# Altium schematic symbol library kmilo17pet-NSC_LDO.SchLib: 2675 symbols (part 50 of 65)
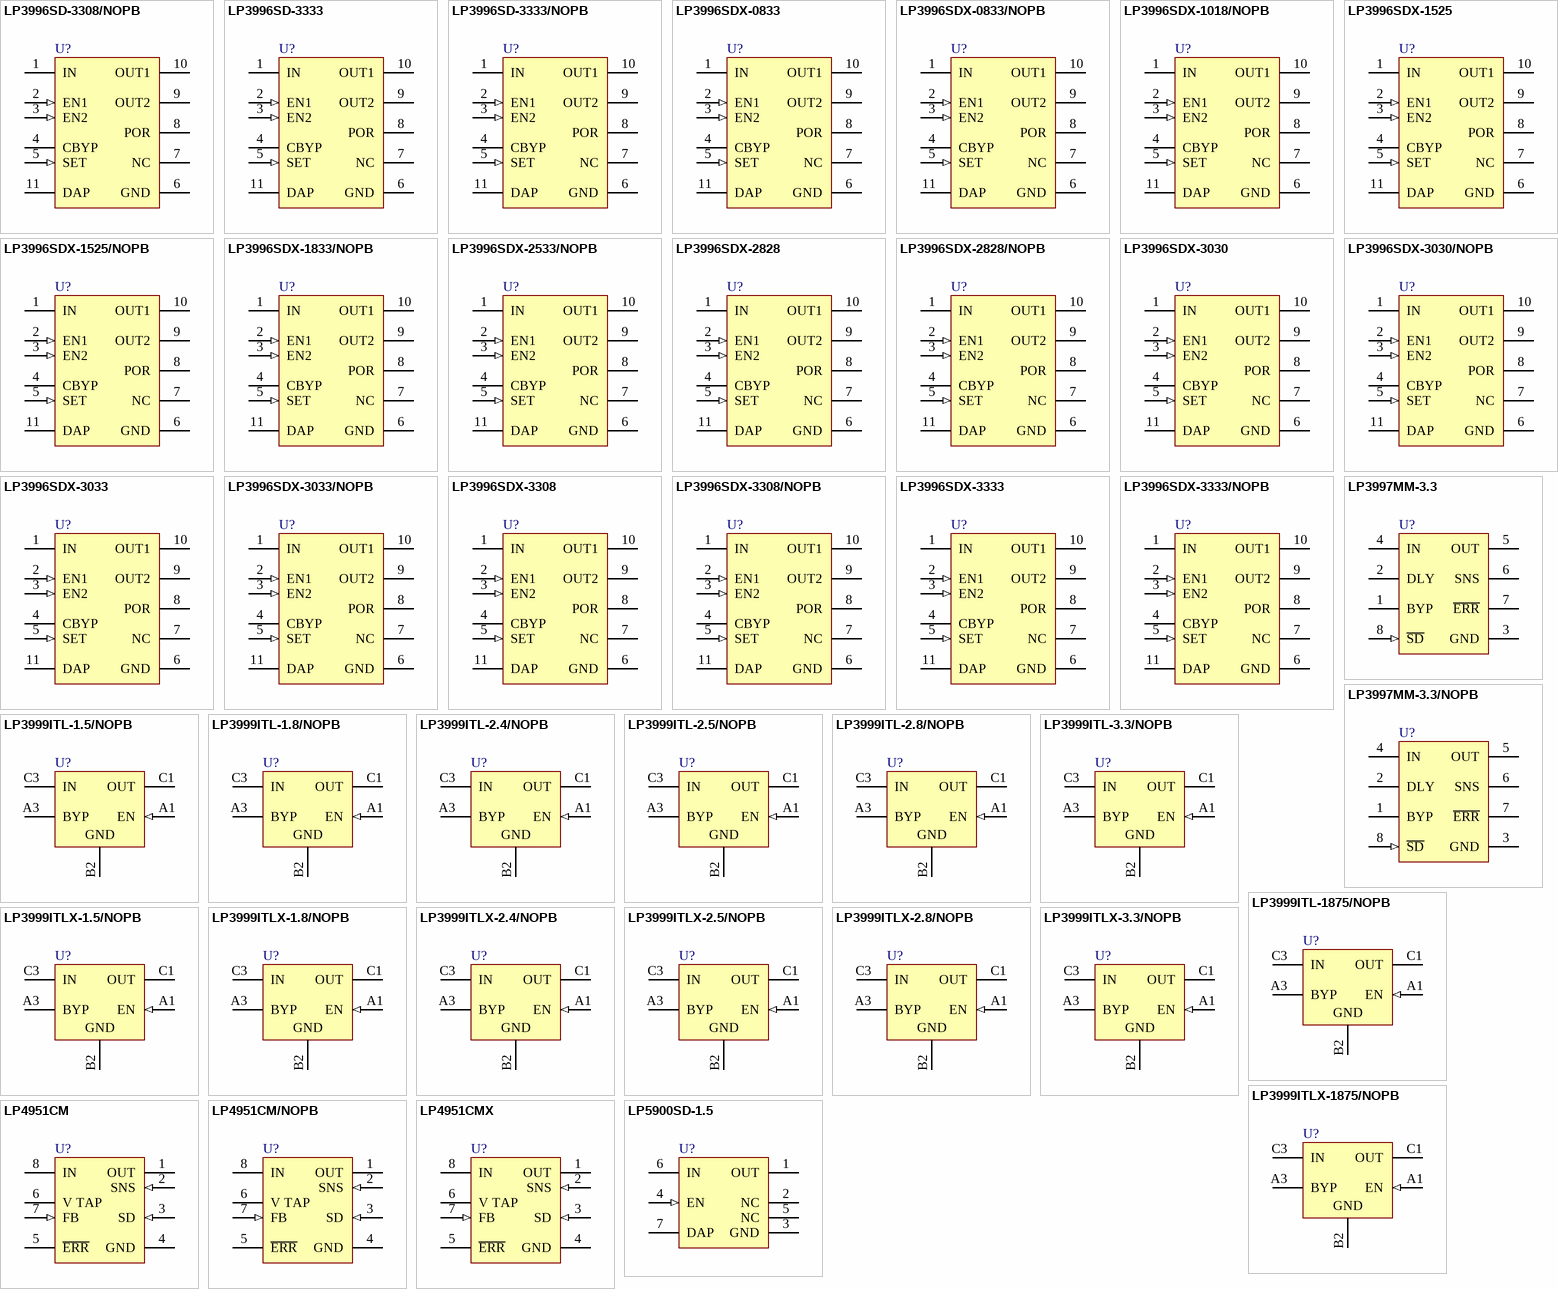
[diagram p116: symbols LP3996SD-3308/NOPB to LP5900SD-1.5]

## LP3996SDX-1018/NOPB
designator U?
Dual Linear Regulator with 300mA and 150mA Outputs and Power-On-Reset, 10-pin LLP, Pb-Free; PartNumber: LP3996SDX-1018/NOPB; Manufacturer: National Semiconductor; PackageTopMarking: ZXYTT*L227B; PowerWise: N; CompType: LDO IC; High-Reliability: Y; DatasheetVersion: Jan-2008; PackageVersion: revA, Oct-2003; PackageReference: SDA10A; PackageDescription: LLP, Plastic, Dual, 3 x 3 x 0.8mm Body, 10 Lead, 0.5mm Pitch, No Pullback; RoHS: Y; PinCount: 10; ComponentLink1Description: Manufacturer URL; ComponentLink1URL: http://www.national.com/; ComponentLink2Description: LP3996 Datasheet; ComponentLink2URL: http://www.national.com/ds/LP/LP3996.pdf; ComponentLink3Description: LP3996 Web Page; ComponentLink3URL: http://www.national.com/pf/LP/LP3996.html; ComponentLink4Description: SDA10A Package Page; ComponentLink4URL: http://www.national.com/packaging/folders/sda10a.html
footprint SDA10A (SON, 10-Leads, Body 3x3 mm, Pitch 0.5mm, NSC Recommended)
pins: 1 IN (power), 2 EN1 (in), 3 EN2 (in), 4 CBYP, 5 SET (in), 6 GND (power), 7 NC, 8 POR (oc), 9 OUT2 (power), 10 OUT1 (power), 11 DAP (power)

## LP3996SDX-1525
designator U?
Dual Linear Regulator with 300mA and 150mA Outputs and Power-On-Reset, 10-pin LLP; PartNumber: LP3996SDX-1525; Manufacturer: National Semiconductor; PackageTopMarking: ZXYTT*L168B; PowerWise: N; CompType: LDO IC; High-Reliability: Y; DatasheetVersion: Jan-2008; PackageVersion: revA, Oct-2003; PackageReference: SDA10A; PackageDescription: LLP, Plastic, Dual, 3 x 3 x 0.8mm Body, 10 Lead, 0.5mm Pitch, No Pullback; RoHS: N; PinCount: 10; ComponentLink1Description: Manufacturer URL; ComponentLink1URL: http://www.national.com/; ComponentLink2Description: LP3996 Datasheet; ComponentLink2URL: http://www.national.com/ds/LP/LP3996.pdf; ComponentLink3Description: LP3996 Web Page; ComponentLink3URL: http://www.national.com/pf/LP/LP3996.html; ComponentLink4Description: SDA10A Package Page; ComponentLink4URL: http://www.national.com/packaging/folders/sda10a.html
footprint SDA10A (SON, 10-Leads, Body 3x3 mm, Pitch 0.5mm, NSC Recommended)
pins: 1 IN (power), 2 EN1 (in), 3 EN2 (in), 4 CBYP, 5 SET (in), 6 GND (power), 7 NC, 8 POR (oc), 9 OUT2 (power), 10 OUT1 (power), 11 DAP (power)

## LP3996SDX-1525/NOPB
designator U?
Dual Linear Regulator with 300mA and 150mA Outputs and Power-On-Reset, 10-pin LLP, Pb-Free; PartNumber: LP3996SDX-1525/NOPB; Manufacturer: National Semiconductor; PackageTopMarking: ZXYTT*L168B; PowerWise: N; CompType: LDO IC; High-Reliability: Y; DatasheetVersion: Jan-2008; PackageVersion: revA, Oct-2003; PackageReference: SDA10A; PackageDescription: LLP, Plastic, Dual, 3 x 3 x 0.8mm Body, 10 Lead, 0.5mm Pitch, No Pullback; RoHS: Y; PinCount: 10; ComponentLink1Description: Manufacturer URL; ComponentLink1URL: http://www.national.com/; ComponentLink2Description: LP3996 Datasheet; ComponentLink2URL: http://www.national.com/ds/LP/LP3996.pdf; ComponentLink3Description: LP3996 Web Page; ComponentLink3URL: http://www.national.com/pf/LP/LP3996.html; ComponentLink4Description: SDA10A Package Page; ComponentLink4URL: http://www.national.com/packaging/folders/sda10a.html
footprint SDA10A (SON, 10-Leads, Body 3x3 mm, Pitch 0.5mm, NSC Recommended)
pins: 1 IN (power), 2 EN1 (in), 3 EN2 (in), 4 CBYP, 5 SET (in), 6 GND (power), 7 NC, 8 POR (oc), 9 OUT2 (power), 10 OUT1 (power), 11 DAP (power)

## LP3996SDX-1833/NOPB
designator U?
Dual Linear Regulator with 300mA and 150mA Outputs and Power-On-Reset, 10-pin LLP, Pb-Free; PartNumber: LP3996SDX-1833/NOPB; Manufacturer: National Semiconductor; PackageTopMarking: ZXYTT*L228B; PowerWise: N; CompType: LDO IC; High-Reliability: Y; DatasheetVersion: Jan-2008; PackageVersion: revA, Oct-2003; PackageReference: SDA10A; PackageDescription: LLP, Plastic, Dual, 3 x 3 x 0.8mm Body, 10 Lead, 0.5mm Pitch, No Pullback; RoHS: Y; PinCount: 10; ComponentLink1Description: Manufacturer URL; ComponentLink1URL: http://www.national.com/; ComponentLink2Description: LP3996 Datasheet; ComponentLink2URL: http://www.national.com/ds/LP/LP3996.pdf; ComponentLink3Description: LP3996 Web Page; ComponentLink3URL: http://www.national.com/pf/LP/LP3996.html; ComponentLink4Description: SDA10A Package Page; ComponentLink4URL: http://www.national.com/packaging/folders/sda10a.html
footprint SDA10A (SON, 10-Leads, Body 3x3 mm, Pitch 0.5mm, NSC Recommended)
pins: 1 IN (power), 2 EN1 (in), 3 EN2 (in), 4 CBYP, 5 SET (in), 6 GND (power), 7 NC, 8 POR (oc), 9 OUT2 (power), 10 OUT1 (power), 11 DAP (power)

## LP3996SDX-2533/NOPB
designator U?
Dual Linear Regulator with 300mA and 150mA Outputs and Power-On-Reset, 10-pin LLP, Pb-Free; PartNumber: LP3996SDX-2533/NOPB; Manufacturer: National Semiconductor; PackageTopMarking: ZXYTT*L229B; PowerWise: N; CompType: LDO IC; High-Reliability: Y; DatasheetVersion: Jan-2008; PackageVersion: revA, Oct-2003; PackageReference: SDA10A; PackageDescription: LLP, Plastic, Dual, 3 x 3 x 0.8mm Body, 10 Lead, 0.5mm Pitch, No Pullback; RoHS: Y; PinCount: 10; ComponentLink1Description: Manufacturer URL; ComponentLink1URL: http://www.national.com/; ComponentLink2Description: LP3996 Datasheet; ComponentLink2URL: http://www.national.com/ds/LP/LP3996.pdf; ComponentLink3Description: LP3996 Web Page; ComponentLink3URL: http://www.national.com/pf/LP/LP3996.html; ComponentLink4Description: SDA10A Package Page; ComponentLink4URL: http://www.national.com/packaging/folders/sda10a.html
footprint SDA10A (SON, 10-Leads, Body 3x3 mm, Pitch 0.5mm, NSC Recommended)
pins: 1 IN (power), 2 EN1 (in), 3 EN2 (in), 4 CBYP, 5 SET (in), 6 GND (power), 7 NC, 8 POR (oc), 9 OUT2 (power), 10 OUT1 (power), 11 DAP (power)

## LP3996SDX-2828
designator U?
Dual Linear Regulator with 300mA and 150mA Outputs and Power-On-Reset, 10-pin LLP; PartNumber: LP3996SDX-2828; Manufacturer: National Semiconductor; PackageTopMarking: ZXYTT*L171B; PowerWise: N; CompType: LDO IC; High-Reliability: Y; DatasheetVersion: Jan-2008; PackageVersion: revA, Oct-2003; PackageReference: SDA10A; PackageDescription: LLP, Plastic, Dual, 3 x 3 x 0.8mm Body, 10 Lead, 0.5mm Pitch, No Pullback; RoHS: N; PinCount: 10; ComponentLink1Description: Manufacturer URL; ComponentLink1URL: http://www.national.com/; ComponentLink2Description: LP3996 Datasheet; ComponentLink2URL: http://www.national.com/ds/LP/LP3996.pdf; ComponentLink3Description: LP3996 Web Page; ComponentLink3URL: http://www.national.com/pf/LP/LP3996.html; ComponentLink4Description: SDA10A Package Page; ComponentLink4URL: http://www.national.com/packaging/folders/sda10a.html
footprint SDA10A (SON, 10-Leads, Body 3x3 mm, Pitch 0.5mm, NSC Recommended)
pins: 1 IN (power), 2 EN1 (in), 3 EN2 (in), 4 CBYP, 5 SET (in), 6 GND (power), 7 NC, 8 POR (oc), 9 OUT2 (power), 10 OUT1 (power), 11 DAP (power)

## LP3996SDX-2828/NOPB
designator U?
Dual Linear Regulator with 300mA and 150mA Outputs and Power-On-Reset, 10-pin LLP, Pb-Free; PartNumber: LP3996SDX-2828/NOPB; Manufacturer: National Semiconductor; PackageTopMarking: ZXYTT*L171B; PowerWise: N; CompType: LDO IC; High-Reliability: Y; DatasheetVersion: Jan-2008; PackageVersion: revA, Oct-2003; PackageReference: SDA10A; PackageDescription: LLP, Plastic, Dual, 3 x 3 x 0.8mm Body, 10 Lead, 0.5mm Pitch, No Pullback; RoHS: Y; PinCount: 10; ComponentLink1Description: Manufacturer URL; ComponentLink1URL: http://www.national.com/; ComponentLink2Description: LP3996 Datasheet; ComponentLink2URL: http://www.national.com/ds/LP/LP3996.pdf; ComponentLink3Description: LP3996 Web Page; ComponentLink3URL: http://www.national.com/pf/LP/LP3996.html; ComponentLink4Description: SDA10A Package Page; ComponentLink4URL: http://www.national.com/packaging/folders/sda10a.html
footprint SDA10A (SON, 10-Leads, Body 3x3 mm, Pitch 0.5mm, NSC Recommended)
pins: 1 IN (power), 2 EN1 (in), 3 EN2 (in), 4 CBYP, 5 SET (in), 6 GND (power), 7 NC, 8 POR (oc), 9 OUT2 (power), 10 OUT1 (power), 11 DAP (power)

## LP3996SDX-3030
designator U?
Dual Linear Regulator with 300mA and 150mA Outputs and Power-On-Reset, 10-pin LLP; PartNumber: LP3996SDX-3030; Manufacturer: National Semiconductor; PackageTopMarking: ZXYTT*L172B; PowerWise: N; CompType: LDO IC; High-Reliability: Y; DatasheetVersion: Jan-2008; PackageVersion: revA, Oct-2003; PackageReference: SDA10A; PackageDescription: LLP, Plastic, Dual, 3 x 3 x 0.8mm Body, 10 Lead, 0.5mm Pitch, No Pullback; RoHS: N; PinCount: 10; ComponentLink1Description: Manufacturer URL; ComponentLink1URL: http://www.national.com/; ComponentLink2Description: LP3996 Datasheet; ComponentLink2URL: http://www.national.com/ds/LP/LP3996.pdf; ComponentLink3Description: LP3996 Web Page; ComponentLink3URL: http://www.national.com/pf/LP/LP3996.html; ComponentLink4Description: SDA10A Package Page; ComponentLink4URL: http://www.national.com/packaging/folders/sda10a.html
footprint SDA10A (SON, 10-Leads, Body 3x3 mm, Pitch 0.5mm, NSC Recommended)
pins: 1 IN (power), 2 EN1 (in), 3 EN2 (in), 4 CBYP, 5 SET (in), 6 GND (power), 7 NC, 8 POR (oc), 9 OUT2 (power), 10 OUT1 (power), 11 DAP (power)

## LP3996SDX-3030/NOPB
designator U?
Dual Linear Regulator with 300mA and 150mA Outputs and Power-On-Reset, 10-pin LLP, Pb-Free; PartNumber: LP3996SDX-3030/NOPB; Manufacturer: National Semiconductor; PackageTopMarking: ZXYTT*L172B; PowerWise: N; CompType: LDO IC; High-Reliability: Y; DatasheetVersion: Jan-2008; PackageVersion: revA, Oct-2003; PackageReference: SDA10A; PackageDescription: LLP, Plastic, Dual, 3 x 3 x 0.8mm Body, 10 Lead, 0.5mm Pitch, No Pullback; RoHS: Y; PinCount: 10; ComponentLink1Description: Manufacturer URL; ComponentLink1URL: http://www.national.com/; ComponentLink2Description: LP3996 Datasheet; ComponentLink2URL: http://www.national.com/ds/LP/LP3996.pdf; ComponentLink3Description: LP3996 Web Page; ComponentLink3URL: http://www.national.com/pf/LP/LP3996.html; ComponentLink4Description: SDA10A Package Page; ComponentLink4URL: http://www.national.com/packaging/folders/sda10a.html
footprint SDA10A (SON, 10-Leads, Body 3x3 mm, Pitch 0.5mm, NSC Recommended)
pins: 1 IN (power), 2 EN1 (in), 3 EN2 (in), 4 CBYP, 5 SET (in), 6 GND (power), 7 NC, 8 POR (oc), 9 OUT2 (power), 10 OUT1 (power), 11 DAP (power)

## LP3996SDX-3033
designator U?
Dual Linear Regulator with 300mA and 150mA Outputs and Power-On-Reset, 10-pin LLP; PartNumber: LP3996SDX-3033; Manufacturer: National Semiconductor; PackageTopMarking: ZXYTT*L170B; PowerWise: N; CompType: LDO IC; High-Reliability: Y; DatasheetVersion: Jan-2008; PackageVersion: revA, Oct-2003; PackageReference: SDA10A; PackageDescription: LLP, Plastic, Dual, 3 x 3 x 0.8mm Body, 10 Lead, 0.5mm Pitch, No Pullback; RoHS: N; PinCount: 10; ComponentLink1Description: Manufacturer URL; ComponentLink1URL: http://www.national.com/; ComponentLink2Description: LP3996 Datasheet; ComponentLink2URL: http://www.national.com/ds/LP/LP3996.pdf; ComponentLink3Description: LP3996 Web Page; ComponentLink3URL: http://www.national.com/pf/LP/LP3996.html; ComponentLink4Description: SDA10A Package Page; ComponentLink4URL: http://www.national.com/packaging/folders/sda10a.html
footprint SDA10A (SON, 10-Leads, Body 3x3 mm, Pitch 0.5mm, NSC Recommended)
pins: 1 IN (power), 2 EN1 (in), 3 EN2 (in), 4 CBYP, 5 SET (in), 6 GND (power), 7 NC, 8 POR (oc), 9 OUT2 (power), 10 OUT1 (power), 11 DAP (power)

## LP3996SDX-3033/NOPB
designator U?
Dual Linear Regulator with 300mA and 150mA Outputs and Power-On-Reset, 10-pin LLP, Pb-Free; PartNumber: LP3996SDX-3033/NOPB; Manufacturer: National Semiconductor; PackageTopMarking: ZXYTT*L170B; PowerWise: N; CompType: LDO IC; High-Reliability: Y; DatasheetVersion: Jan-2008; PackageVersion: revA, Oct-2003; PackageReference: SDA10A; PackageDescription: LLP, Plastic, Dual, 3 x 3 x 0.8mm Body, 10 Lead, 0.5mm Pitch, No Pullback; RoHS: Y; PinCount: 10; ComponentLink1Description: Manufacturer URL; ComponentLink1URL: http://www.national.com/; ComponentLink2Description: LP3996 Datasheet; ComponentLink2URL: http://www.national.com/ds/LP/LP3996.pdf; ComponentLink3Description: LP3996 Web Page; ComponentLink3URL: http://www.national.com/pf/LP/LP3996.html; ComponentLink4Description: SDA10A Package Page; ComponentLink4URL: http://www.national.com/packaging/folders/sda10a.html
footprint SDA10A (SON, 10-Leads, Body 3x3 mm, Pitch 0.5mm, NSC Recommended)
pins: 1 IN (power), 2 EN1 (in), 3 EN2 (in), 4 CBYP, 5 SET (in), 6 GND (power), 7 NC, 8 POR (oc), 9 OUT2 (power), 10 OUT1 (power), 11 DAP (power)

## LP3996SDX-3308
designator U?
Dual Linear Regulator with 300mA and 150mA Outputs and Power-On-Reset, 10-pin LLP; PartNumber: LP3996SDX-3308; Manufacturer: National Semiconductor; PackageTopMarking: ZXYTT*L188B; PowerWise: N; CompType: LDO IC; High-Reliability: Y; DatasheetVersion: Jan-2008; PackageVersion: revA, Oct-2003; PackageReference: SDA10A; PackageDescription: LLP, Plastic, Dual, 3 x 3 x 0.8mm Body, 10 Lead, 0.5mm Pitch, No Pullback; RoHS: N; PinCount: 10; ComponentLink1Description: Manufacturer URL; ComponentLink1URL: http://www.national.com/; ComponentLink2Description: LP3996 Datasheet; ComponentLink2URL: http://www.national.com/ds/LP/LP3996.pdf; ComponentLink3Description: LP3996 Web Page; ComponentLink3URL: http://www.national.com/pf/LP/LP3996.html; ComponentLink4Description: SDA10A Package Page; ComponentLink4URL: http://www.national.com/packaging/folders/sda10a.html
footprint SDA10A (SON, 10-Leads, Body 3x3 mm, Pitch 0.5mm, NSC Recommended)
pins: 1 IN (power), 2 EN1 (in), 3 EN2 (in), 4 CBYP, 5 SET (in), 6 GND (power), 7 NC, 8 POR (oc), 9 OUT2 (power), 10 OUT1 (power), 11 DAP (power)

## LP3996SDX-3308/NOPB
designator U?
Dual Linear Regulator with 300mA and 150mA Outputs and Power-On-Reset, 10-pin LLP, Pb-Free; PartNumber: LP3996SDX-3308/NOPB; Manufacturer: National Semiconductor; PackageTopMarking: ZXYTT*L188B; PowerWise: N; CompType: LDO IC; High-Reliability: Y; DatasheetVersion: Jan-2008; PackageVersion: revA, Oct-2003; PackageReference: SDA10A; PackageDescription: LLP, Plastic, Dual, 3 x 3 x 0.8mm Body, 10 Lead, 0.5mm Pitch, No Pullback; RoHS: Y; PinCount: 10; ComponentLink1Description: Manufacturer URL; ComponentLink1URL: http://www.national.com/; ComponentLink2Description: LP3996 Datasheet; ComponentLink2URL: http://www.national.com/ds/LP/LP3996.pdf; ComponentLink3Description: LP3996 Web Page; ComponentLink3URL: http://www.national.com/pf/LP/LP3996.html; ComponentLink4Description: SDA10A Package Page; ComponentLink4URL: http://www.national.com/packaging/folders/sda10a.html
footprint SDA10A (SON, 10-Leads, Body 3x3 mm, Pitch 0.5mm, NSC Recommended)
pins: 1 IN (power), 2 EN1 (in), 3 EN2 (in), 4 CBYP, 5 SET (in), 6 GND (power), 7 NC, 8 POR (oc), 9 OUT2 (power), 10 OUT1 (power), 11 DAP (power)

## LP3996SDX-3333
designator U?
Dual Linear Regulator with 300mA and 150mA Outputs and Power-On-Reset, 10-pin LLP; PartNumber: LP3996SDX-3333; Manufacturer: National Semiconductor; PackageTopMarking: ZXYTT*L173B; PowerWise: N; CompType: LDO IC; High-Reliability: Y; DatasheetVersion: Jan-2008; PackageVersion: revA, Oct-2003; PackageReference: SDA10A; PackageDescription: LLP, Plastic, Dual, 3 x 3 x 0.8mm Body, 10 Lead, 0.5mm Pitch, No Pullback; RoHS: N; PinCount: 10; ComponentLink1Description: Manufacturer URL; ComponentLink1URL: http://www.national.com/; ComponentLink2Description: LP3996 Datasheet; ComponentLink2URL: http://www.national.com/ds/LP/LP3996.pdf; ComponentLink3Description: LP3996 Web Page; ComponentLink3URL: http://www.national.com/pf/LP/LP3996.html; ComponentLink4Description: SDA10A Package Page; ComponentLink4URL: http://www.national.com/packaging/folders/sda10a.html
footprint SDA10A (SON, 10-Leads, Body 3x3 mm, Pitch 0.5mm, NSC Recommended)
pins: 1 IN (power), 2 EN1 (in), 3 EN2 (in), 4 CBYP, 5 SET (in), 6 GND (power), 7 NC, 8 POR (oc), 9 OUT2 (power), 10 OUT1 (power), 11 DAP (power)

## LP3996SDX-3333/NOPB
designator U?
Dual Linear Regulator with 300mA and 150mA Outputs and Power-On-Reset, 10-pin LLP, Pb-Free; PartNumber: LP3996SDX-3333/NOPB; Manufacturer: National Semiconductor; PackageTopMarking: ZXYTT*L173B; PowerWise: N; CompType: LDO IC; High-Reliability: Y; DatasheetVersion: Jan-2008; PackageVersion: revA, Oct-2003; PackageReference: SDA10A; PackageDescription: LLP, Plastic, Dual, 3 x 3 x 0.8mm Body, 10 Lead, 0.5mm Pitch, No Pullback; RoHS: Y; PinCount: 10; ComponentLink1Description: Manufacturer URL; ComponentLink1URL: http://www.national.com/; ComponentLink2Description: LP3996 Datasheet; ComponentLink2URL: http://www.national.com/ds/LP/LP3996.pdf; ComponentLink3Description: LP3996 Web Page; ComponentLink3URL: http://www.national.com/pf/LP/LP3996.html; ComponentLink4Description: SDA10A Package Page; ComponentLink4URL: http://www.national.com/packaging/folders/sda10a.html
footprint SDA10A (SON, 10-Leads, Body 3x3 mm, Pitch 0.5mm, NSC Recommended)
pins: 1 IN (power), 2 EN1 (in), 3 EN2 (in), 4 CBYP, 5 SET (in), 6 GND (power), 7 NC, 8 POR (oc), 9 OUT2 (power), 10 OUT1 (power), 11 DAP (power)

## LP3997MM-3.3
designator U?
Micropower 250mA CMOS LDO Regulator with Error Flag / Power-On-Reset, 8-pin Mini SOIC; PartNumber: LP3997MM-3.3; Manufacturer: National Semiconductor; PackageTopMarking: ZXTT*SAKB; PowerWise: N; CompType: LDO IC; High-Reliability: Y; DatasheetVersion: May-2005; PackageVersion: revF, Apr-2008; PackageReference: MUA08A; PackageDescription: MINI SOIC, .118 x .118 x .034in, 8 Lead, .0256in Pitch; RoHS: N; PinCount: 8; Code_JEDEC: MO-187-AA; ComponentLink1Description: Manufacturer URL; ComponentLink1URL: http://www.national.com/; ComponentLink2Description: LP3997 Datasheet; ComponentLink2URL: http://www.national.com/ds/LP/LP3997.pdf; ComponentLink3Description: LP3997 Web Page; ComponentLink3URL: http://www.national.com/pf/LP/LP3997.html; ComponentLink4Description: MUA08A Package Page; ComponentLink4URL: http://www.national.com/packaging/folders/mua08a.html
footprint MUA08A_N (TSOP, 8-Leads, Body 3x3mm, Pitch 0.65mm, IPC Medium Density)
footprint MUA08A_L (TSOP, 8-Leads, Body 3x3mm, Pitch 0.65mm, IPC High Density)
footprint MUA08A_M (TSOP, 8-Leads, Body 3x3mm, Pitch 0.65mm, IPC Low Density)
pins: 1 BYP, 2 DLY, 3 GND (power), 4 IN (power), 5 OUT (power), 6 SNS, 7 ~{ERR} (oc), 8 ~{SD} (in)

## LP3997MM-3.3/NOPB
designator U?
Micropower 250mA CMOS LDO Regulator with Error Flag / Power-On-Reset, 8-pin Mini SOIC, Pb-Free; PartNumber: LP3997MM-3.3/NOPB; Manufacturer: National Semiconductor; PackageTopMarking: ZXTT*SAKB; PowerWise: N; CompType: LDO IC; High-Reliability: Y; DatasheetVersion: May-2005; PackageVersion: revF, Apr-2008; PackageReference: MUA08A; PackageDescription: MINI SOIC, .118 x .118 x .034in, 8 Lead, .0256in Pitch; RoHS: Y; PinCount: 8; Code_JEDEC: MO-187-AA; ComponentLink1Description: Manufacturer URL; ComponentLink1URL: http://www.national.com/; ComponentLink2Description: LP3997 Datasheet; ComponentLink2URL: http://www.national.com/ds/LP/LP3997.pdf; ComponentLink3Description: LP3997 Web Page; ComponentLink3URL: http://www.national.com/pf/LP/LP3997.html; ComponentLink4Description: MUA08A Package Page; ComponentLink4URL: http://www.national.com/packaging/folders/mua08a.html
footprint MUA08A_N (TSOP, 8-Leads, Body 3x3mm, Pitch 0.65mm, IPC Medium Density)
footprint MUA08A_L (TSOP, 8-Leads, Body 3x3mm, Pitch 0.65mm, IPC High Density)
footprint MUA08A_M (TSOP, 8-Leads, Body 3x3mm, Pitch 0.65mm, IPC Low Density)
pins: 1 BYP, 2 DLY, 3 GND (power), 4 IN (power), 5 OUT (power), 6 SNS, 7 ~{ERR} (oc), 8 ~{SD} (in)

## LP3999ITL-1.5/NOPB
designator U?
Low Noise 150mA Voltage Regulator for RF/Analog Applications., 5-pin Micro SMD, Pb-Free; PartNumber: LP3999ITL-1.5/NOPB; Manufacturer: National Semiconductor; PackageTopMarking: XV*I 9; PowerWise: N; CompType: LDO IC; High-Reliability: Y; DatasheetVersion: Jul-2006; PackageVersion: revC, Feb-2005; PackageReference: TLA05ADA; PackageDescription: Thin Micro SMD, 5 Bump (Large), 0.5mm Pitch; RoHS: Y; PinCount: 5; ComponentLink1Description: Manufacturer URL; ComponentLink1URL: http://www.national.com/; ComponentLink2Description: LP3999 Datasheet; ComponentLink2URL: http://www.national.com/ds/LP/LP3999.pdf; ComponentLink3Description: LP3999 Web Page; ComponentLink3URL: http://www.national.com/pf/LP/LP3999.html; ComponentLink4Description: TLA05ADA Package Page; ComponentLink4URL: http://www.national.com/packaging/folders/tla05ada.html
footprint TLA05ADA (Micro SMD, 5-Leads, Body 1.45x1.01mm, Pitch 0.5mm, NSC Recommended)
pins: A1 EN (in), A3 BYP, B2 GND (power), C1 OUT (power), C3 IN (power)

## LP3999ITL-1.8/NOPB
designator U?
Low Noise 150mA Voltage Regulator for RF/Analog Applications., 5-pin Micro SMD, Pb-Free; PartNumber: LP3999ITL-1.8/NOPB; Manufacturer: National Semiconductor; PackageTopMarking: XV*I 9; PowerWise: N; CompType: LDO IC; High-Reliability: Y; DatasheetVersion: Jul-2006; PackageVersion: revC, Feb-2005; PackageReference: TLA05ADA; PackageDescription: Thin Micro SMD, 5 Bump (Large), 0.5mm Pitch; RoHS: Y; PinCount: 5; ComponentLink1Description: Manufacturer URL; ComponentLink1URL: http://www.national.com/; ComponentLink2Description: LP3999 Datasheet; ComponentLink2URL: http://www.national.com/ds/LP/LP3999.pdf; ComponentLink3Description: LP3999 Web Page; ComponentLink3URL: http://www.national.com/pf/LP/LP3999.html; ComponentLink4Description: TLA05ADA Package Page; ComponentLink4URL: http://www.national.com/packaging/folders/tla05ada.html
footprint TLA05ADA (Micro SMD, 5-Leads, Body 1.45x1.01mm, Pitch 0.5mm, NSC Recommended)
pins: A1 EN (in), A3 BYP, B2 GND (power), C1 OUT (power), C3 IN (power)

## LP3999ITL-2.4/NOPB
designator U?
Low Noise 150mA Voltage Regulator for RF/Analog Applications., 5-pin Micro SMD, Pb-Free; PartNumber: LP3999ITL-2.4/NOPB; Manufacturer: National Semiconductor; PackageTopMarking: XV*I 9; PowerWise: N; CompType: LDO IC; High-Reliability: Y; DatasheetVersion: Jul-2006; PackageVersion: revC, Feb-2005; PackageReference: TLA05ADA; PackageDescription: Thin Micro SMD, 5 Bump (Large), 0.5mm Pitch; RoHS: Y; PinCount: 5; ComponentLink1Description: Manufacturer URL; ComponentLink1URL: http://www.national.com/; ComponentLink2Description: LP3999 Datasheet; ComponentLink2URL: http://www.national.com/ds/LP/LP3999.pdf; ComponentLink3Description: LP3999 Web Page; ComponentLink3URL: http://www.national.com/pf/LP/LP3999.html; ComponentLink4Description: TLA05ADA Package Page; ComponentLink4URL: http://www.national.com/packaging/folders/tla05ada.html
footprint TLA05ADA (Micro SMD, 5-Leads, Body 1.45x1.01mm, Pitch 0.5mm, NSC Recommended)
pins: A1 EN (in), A3 BYP, B2 GND (power), C1 OUT (power), C3 IN (power)

## LP3999ITL-2.5/NOPB
designator U?
Low Noise 150mA Voltage Regulator for RF/Analog Applications., 5-pin Micro SMD, Pb-Free; PartNumber: LP3999ITL-2.5/NOPB; Manufacturer: National Semiconductor; PackageTopMarking: XV*I 9; PowerWise: N; CompType: LDO IC; High-Reliability: Y; DatasheetVersion: Jul-2006; PackageVersion: revC, Feb-2005; PackageReference: TLA05ADA; PackageDescription: Thin Micro SMD, 5 Bump (Large), 0.5mm Pitch; RoHS: Y; PinCount: 5; ComponentLink1Description: Manufacturer URL; ComponentLink1URL: http://www.national.com/; ComponentLink2Description: LP3999 Datasheet; ComponentLink2URL: http://www.national.com/ds/LP/LP3999.pdf; ComponentLink3Description: LP3999 Web Page; ComponentLink3URL: http://www.national.com/pf/LP/LP3999.html; ComponentLink4Description: TLA05ADA Package Page; ComponentLink4URL: http://www.national.com/packaging/folders/tla05ada.html
footprint TLA05ADA (Micro SMD, 5-Leads, Body 1.45x1.01mm, Pitch 0.5mm, NSC Recommended)
pins: A1 EN (in), A3 BYP, B2 GND (power), C1 OUT (power), C3 IN (power)

## LP3999ITL-2.8/NOPB
designator U?
Low Noise 150mA Voltage Regulator for RF/Analog Applications., 5-pin Micro SMD, Pb-Free; PartNumber: LP3999ITL-2.8/NOPB; Manufacturer: National Semiconductor; PackageTopMarking: XV*I 9; PowerWise: N; CompType: LDO IC; High-Reliability: Y; DatasheetVersion: Jul-2006; PackageVersion: revC, Feb-2005; PackageReference: TLA05ADA; PackageDescription: Thin Micro SMD, 5 Bump (Large), 0.5mm Pitch; RoHS: Y; PinCount: 5; ComponentLink1Description: Manufacturer URL; ComponentLink1URL: http://www.national.com/; ComponentLink2Description: LP3999 Datasheet; ComponentLink2URL: http://www.national.com/ds/LP/LP3999.pdf; ComponentLink3Description: LP3999 Web Page; ComponentLink3URL: http://www.national.com/pf/LP/LP3999.html; ComponentLink4Description: TLA05ADA Package Page; ComponentLink4URL: http://www.national.com/packaging/folders/tla05ada.html
footprint TLA05ADA (Micro SMD, 5-Leads, Body 1.45x1.01mm, Pitch 0.5mm, NSC Recommended)
pins: A1 EN (in), A3 BYP, B2 GND (power), C1 OUT (power), C3 IN (power)

## LP3999ITL-3.3/NOPB
designator U?
Low Noise 150mA Voltage Regulator for RF/Analog Applications., 5-pin Micro SMD, Pb-Free; PartNumber: LP3999ITL-3.3/NOPB; Manufacturer: National Semiconductor; PackageTopMarking: XV*I 9; PowerWise: N; CompType: LDO IC; High-Reliability: Y; DatasheetVersion: Jul-2006; PackageVersion: revC, Feb-2005; PackageReference: TLA05ADA; PackageDescription: Thin Micro SMD, 5 Bump (Large), 0.5mm Pitch; RoHS: Y; PinCount: 5; ComponentLink1Description: Manufacturer URL; ComponentLink1URL: http://www.national.com/; ComponentLink2Description: LP3999 Datasheet; ComponentLink2URL: http://www.national.com/ds/LP/LP3999.pdf; ComponentLink3Description: LP3999 Web Page; ComponentLink3URL: http://www.national.com/pf/LP/LP3999.html; ComponentLink4Description: TLA05ADA Package Page; ComponentLink4URL: http://www.national.com/packaging/folders/tla05ada.html
footprint TLA05ADA (Micro SMD, 5-Leads, Body 1.45x1.01mm, Pitch 0.5mm, NSC Recommended)
pins: A1 EN (in), A3 BYP, B2 GND (power), C1 OUT (power), C3 IN (power)

## LP3999ITL-1875/NOPB
designator U?
Low Noise 150mA Voltage Regulator for RF/Analog Applications., 5-pin Micro SMD, Pb-Free; PartNumber: LP3999ITL-1875/NOPB; Manufacturer: National Semiconductor; PackageTopMarking: XV*I 9; PowerWise: N; CompType: LDO IC; High-Reliability: Y; DatasheetVersion: Jul-2006; PackageVersion: revC, Feb-2005; PackageReference: TLA05ADA; PackageDescription: Thin Micro SMD, 5 Bump (Large), 0.5mm Pitch; RoHS: Y; PinCount: 5; ComponentLink1Description: Manufacturer URL; ComponentLink1URL: http://www.national.com/; ComponentLink2Description: LP3999 Datasheet; ComponentLink2URL: http://www.national.com/ds/LP/LP3999.pdf; ComponentLink3Description: LP3999 Web Page; ComponentLink3URL: http://www.national.com/pf/LP/LP3999.html; ComponentLink4Description: TLA05ADA Package Page; ComponentLink4URL: http://www.national.com/packaging/folders/tla05ada.html
footprint TLA05ADA (Micro SMD, 5-Leads, Body 1.45x1.01mm, Pitch 0.5mm, NSC Recommended)
pins: A1 EN (in), A3 BYP, B2 GND (power), C1 OUT (power), C3 IN (power)

## LP3999ITLX-1.5/NOPB
designator U?
Low Noise 150mA Voltage Regulator for RF/Analog Applications., 5-pin Micro SMD, Pb-Free; PartNumber: LP3999ITLX-1.5/NOPB; Manufacturer: National Semiconductor; PackageTopMarking: XV*I 9; PowerWise: N; CompType: LDO IC; High-Reliability: Y; DatasheetVersion: Jul-2006; PackageVersion: revC, Feb-2005; PackageReference: TLA05ADA; PackageDescription: Thin Micro SMD, 5 Bump (Large), 0.5mm Pitch; RoHS: Y; PinCount: 5; ComponentLink1Description: Manufacturer URL; ComponentLink1URL: http://www.national.com/; ComponentLink2Description: LP3999 Datasheet; ComponentLink2URL: http://www.national.com/ds/LP/LP3999.pdf; ComponentLink3Description: LP3999 Web Page; ComponentLink3URL: http://www.national.com/pf/LP/LP3999.html; ComponentLink4Description: TLA05ADA Package Page; ComponentLink4URL: http://www.national.com/packaging/folders/tla05ada.html
footprint TLA05ADA (Micro SMD, 5-Leads, Body 1.45x1.01mm, Pitch 0.5mm, NSC Recommended)
pins: A1 EN (in), A3 BYP, B2 GND (power), C1 OUT (power), C3 IN (power)

## LP3999ITLX-1.8/NOPB
designator U?
Low Noise 150mA Voltage Regulator for RF/Analog Applications., 5-pin Micro SMD, Pb-Free; PartNumber: LP3999ITLX-1.8/NOPB; Manufacturer: National Semiconductor; PackageTopMarking: XV*I 9; PowerWise: N; CompType: LDO IC; High-Reliability: Y; DatasheetVersion: Jul-2006; PackageVersion: revC, Feb-2005; PackageReference: TLA05ADA; PackageDescription: Thin Micro SMD, 5 Bump (Large), 0.5mm Pitch; RoHS: Y; PinCount: 5; ComponentLink1Description: Manufacturer URL; ComponentLink1URL: http://www.national.com/; ComponentLink2Description: LP3999 Datasheet; ComponentLink2URL: http://www.national.com/ds/LP/LP3999.pdf; ComponentLink3Description: LP3999 Web Page; ComponentLink3URL: http://www.national.com/pf/LP/LP3999.html; ComponentLink4Description: TLA05ADA Package Page; ComponentLink4URL: http://www.national.com/packaging/folders/tla05ada.html
footprint TLA05ADA (Micro SMD, 5-Leads, Body 1.45x1.01mm, Pitch 0.5mm, NSC Recommended)
pins: A1 EN (in), A3 BYP, B2 GND (power), C1 OUT (power), C3 IN (power)

## LP3999ITLX-2.4/NOPB
designator U?
Low Noise 150mA Voltage Regulator for RF/Analog Applications., 5-pin Micro SMD, Pb-Free; PartNumber: LP3999ITLX-2.4/NOPB; Manufacturer: National Semiconductor; PackageTopMarking: XV*I 9; PowerWise: N; CompType: LDO IC; High-Reliability: Y; DatasheetVersion: Jul-2006; PackageVersion: revC, Feb-2005; PackageReference: TLA05ADA; PackageDescription: Thin Micro SMD, 5 Bump (Large), 0.5mm Pitch; RoHS: Y; PinCount: 5; ComponentLink1Description: Manufacturer URL; ComponentLink1URL: http://www.national.com/; ComponentLink2Description: LP3999 Datasheet; ComponentLink2URL: http://www.national.com/ds/LP/LP3999.pdf; ComponentLink3Description: LP3999 Web Page; ComponentLink3URL: http://www.national.com/pf/LP/LP3999.html; ComponentLink4Description: TLA05ADA Package Page; ComponentLink4URL: http://www.national.com/packaging/folders/tla05ada.html
footprint TLA05ADA (Micro SMD, 5-Leads, Body 1.45x1.01mm, Pitch 0.5mm, NSC Recommended)
pins: A1 EN (in), A3 BYP, B2 GND (power), C1 OUT (power), C3 IN (power)

## LP3999ITLX-2.5/NOPB
designator U?
Low Noise 150mA Voltage Regulator for RF/Analog Applications., 5-pin Micro SMD, Pb-Free; PartNumber: LP3999ITLX-2.5/NOPB; Manufacturer: National Semiconductor; PackageTopMarking: XV*I 9; PowerWise: N; CompType: LDO IC; High-Reliability: Y; DatasheetVersion: Jul-2006; PackageVersion: revC, Feb-2005; PackageReference: TLA05ADA; PackageDescription: Thin Micro SMD, 5 Bump (Large), 0.5mm Pitch; RoHS: Y; PinCount: 5; ComponentLink1Description: Manufacturer URL; ComponentLink1URL: http://www.national.com/; ComponentLink2Description: LP3999 Datasheet; ComponentLink2URL: http://www.national.com/ds/LP/LP3999.pdf; ComponentLink3Description: LP3999 Web Page; ComponentLink3URL: http://www.national.com/pf/LP/LP3999.html; ComponentLink4Description: TLA05ADA Package Page; ComponentLink4URL: http://www.national.com/packaging/folders/tla05ada.html
footprint TLA05ADA (Micro SMD, 5-Leads, Body 1.45x1.01mm, Pitch 0.5mm, NSC Recommended)
pins: A1 EN (in), A3 BYP, B2 GND (power), C1 OUT (power), C3 IN (power)

## LP3999ITLX-2.8/NOPB
designator U?
Low Noise 150mA Voltage Regulator for RF/Analog Applications., 5-pin Micro SMD, Pb-Free; PartNumber: LP3999ITLX-2.8/NOPB; Manufacturer: National Semiconductor; PackageTopMarking: XV*I 9; PowerWise: N; CompType: LDO IC; High-Reliability: Y; DatasheetVersion: Jul-2006; PackageVersion: revC, Feb-2005; PackageReference: TLA05ADA; PackageDescription: Thin Micro SMD, 5 Bump (Large), 0.5mm Pitch; RoHS: Y; PinCount: 5; ComponentLink1Description: Manufacturer URL; ComponentLink1URL: http://www.national.com/; ComponentLink2Description: LP3999 Datasheet; ComponentLink2URL: http://www.national.com/ds/LP/LP3999.pdf; ComponentLink3Description: LP3999 Web Page; ComponentLink3URL: http://www.national.com/pf/LP/LP3999.html; ComponentLink4Description: TLA05ADA Package Page; ComponentLink4URL: http://www.national.com/packaging/folders/tla05ada.html
footprint TLA05ADA (Micro SMD, 5-Leads, Body 1.45x1.01mm, Pitch 0.5mm, NSC Recommended)
pins: A1 EN (in), A3 BYP, B2 GND (power), C1 OUT (power), C3 IN (power)

## LP3999ITLX-3.3/NOPB
designator U?
Low Noise 150mA Voltage Regulator for RF/Analog Applications., 5-pin Micro SMD, Pb-Free; PartNumber: LP3999ITLX-3.3/NOPB; Manufacturer: National Semiconductor; PackageTopMarking: XV*I 9; PowerWise: N; CompType: LDO IC; High-Reliability: Y; DatasheetVersion: Jul-2006; PackageVersion: revC, Feb-2005; PackageReference: TLA05ADA; PackageDescription: Thin Micro SMD, 5 Bump (Large), 0.5mm Pitch; RoHS: Y; PinCount: 5; ComponentLink1Description: Manufacturer URL; ComponentLink1URL: http://www.national.com/; ComponentLink2Description: LP3999 Datasheet; ComponentLink2URL: http://www.national.com/ds/LP/LP3999.pdf; ComponentLink3Description: LP3999 Web Page; ComponentLink3URL: http://www.national.com/pf/LP/LP3999.html; ComponentLink4Description: TLA05ADA Package Page; ComponentLink4URL: http://www.national.com/packaging/folders/tla05ada.html
footprint TLA05ADA (Micro SMD, 5-Leads, Body 1.45x1.01mm, Pitch 0.5mm, NSC Recommended)
pins: A1 EN (in), A3 BYP, B2 GND (power), C1 OUT (power), C3 IN (power)

## LP3999ITLX-1875/NOPB
designator U?
Low Noise 150mA Voltage Regulator for RF/Analog Applications., 5-pin Micro SMD, Pb-Free; PartNumber: LP3999ITLX-1875/NOPB; Manufacturer: National Semiconductor; PackageTopMarking: XV*I 9; PowerWise: N; CompType: LDO IC; High-Reliability: Y; DatasheetVersion: Jul-2006; PackageVersion: revC, Feb-2005; PackageReference: TLA05ADA; PackageDescription: Thin Micro SMD, 5 Bump (Large), 0.5mm Pitch; RoHS: Y; PinCount: 5; ComponentLink1Description: Manufacturer URL; ComponentLink1URL: http://www.national.com/; ComponentLink2Description: LP3999 Datasheet; ComponentLink2URL: http://www.national.com/ds/LP/LP3999.pdf; ComponentLink3Description: LP3999 Web Page; ComponentLink3URL: http://www.national.com/pf/LP/LP3999.html; ComponentLink4Description: TLA05ADA Package Page; ComponentLink4URL: http://www.national.com/packaging/folders/tla05ada.html
footprint TLA05ADA (Micro SMD, 5-Leads, Body 1.45x1.01mm, Pitch 0.5mm, NSC Recommended)
pins: A1 EN (in), A3 BYP, B2 GND (power), C1 OUT (power), C3 IN (power)

## LP4951CM
designator U?
Adjustable Micropower Voltage Regulators, 8-pin Narrow SOIC; PartNumber: LP4951CM; Manufacturer: National Semiconductor; PackageTopMarking: NSZXTT*LP495*1CM; PowerWise: N; CompType: LDO IC; High-Reliability: Y; DatasheetVersion: Aug-2005; PackageVersion: revM, May-2009; PackageReference: M08A; PackageDescription: SOIC Narrow, 4.9 x 3.9 x 1.45mm, 8 Lead, 1.27mm Pitch; RoHS: N; PinCount: 8; Code_JEDEC: MS-012-AA; Code_IPC: SOIC127P600-8; ComponentLink1Description: Manufacturer URL; ComponentLink1URL: http://www.national.com/; ComponentLink2Description: LP4951C Datasheet; ComponentLink2URL: http://www.national.com/ds/LP/LP4951C.pdf; ComponentLink3Description: LP4951C Web Page; ComponentLink3URL: http://www.national.com/pf/LP/LP4951C.html; ComponentLink4Description: M08A Package Page; ComponentLink4URL: http://www.national.com/packaging/folders/m08a.html
footprint M08A_N (SOIC, 8-Leads, Body 4.9x3.9mm, Pitch 1.27mm, IPC Medium Density)
footprint M08A_L (SOIC, 8-Leads, Body 4.9x3.9mm, Pitch 1.27mm, IPC High Density)
footprint M08A_M (SOIC, 8-Leads, Body 4.9x3.9mm, Pitch 1.27mm, IPC Low Density)
pins: 1 OUT (power), 2 SNS (in), 3 SD (in), 4 GND (power), 5 ~{ERR} (oc), 6 V TAP, 7 FB (in), 8 IN (power)

## LP4951CM/NOPB
designator U?
Adjustable Micropower Voltage Regulators, 8-pin Narrow SOIC, Pb-Free; PartNumber: LP4951CM/NOPB; Manufacturer: National Semiconductor; PackageTopMarking: NSZXTT*LP495*1CM; PowerWise: N; CompType: LDO IC; High-Reliability: Y; DatasheetVersion: Aug-2005; PackageVersion: revM, May-2009; PackageReference: M08A; PackageDescription: SOIC Narrow, 4.9 x 3.9 x 1.45mm, 8 Lead, 1.27mm Pitch; RoHS: Y; PinCount: 8; Code_JEDEC: MS-012-AA; Code_IPC: SOIC127P600-8; ComponentLink1Description: Manufacturer URL; ComponentLink1URL: http://www.national.com/; ComponentLink2Description: LP4951C Datasheet; ComponentLink2URL: http://www.national.com/ds/LP/LP4951C.pdf; ComponentLink3Description: LP4951C Web Page; ComponentLink3URL: http://www.national.com/pf/LP/LP4951C.html; ComponentLink4Description: M08A Package Page; ComponentLink4URL: http://www.national.com/packaging/folders/m08a.html
footprint M08A_N (SOIC, 8-Leads, Body 4.9x3.9mm, Pitch 1.27mm, IPC Medium Density)
footprint M08A_L (SOIC, 8-Leads, Body 4.9x3.9mm, Pitch 1.27mm, IPC High Density)
footprint M08A_M (SOIC, 8-Leads, Body 4.9x3.9mm, Pitch 1.27mm, IPC Low Density)
pins: 1 OUT (power), 2 SNS (in), 3 SD (in), 4 GND (power), 5 ~{ERR} (oc), 6 V TAP, 7 FB (in), 8 IN (power)

## LP4951CMX
designator U?
Adjustable Micropower Voltage Regulators, 8-pin Narrow SOIC; PartNumber: LP4951CMX; Manufacturer: National Semiconductor; PackageTopMarking: NSZXTT*LP495*1CM; PowerWise: N; CompType: LDO IC; High-Reliability: Y; DatasheetVersion: Aug-2005; PackageVersion: revM, May-2009; PackageReference: M08A; PackageDescription: SOIC Narrow, 4.9 x 3.9 x 1.45mm, 8 Lead, 1.27mm Pitch; RoHS: N; PinCount: 8; Code_JEDEC: MS-012-AA; Code_IPC: SOIC127P600-8; ComponentLink1Description: Manufacturer URL; ComponentLink1URL: http://www.national.com/; ComponentLink2Description: LP4951C Datasheet; ComponentLink2URL: http://www.national.com/ds/LP/LP4951C.pdf; ComponentLink3Description: LP4951C Web Page; ComponentLink3URL: http://www.national.com/pf/LP/LP4951C.html; ComponentLink4Description: M08A Package Page; ComponentLink4URL: http://www.national.com/packaging/folders/m08a.html
footprint M08A_N (SOIC, 8-Leads, Body 4.9x3.9mm, Pitch 1.27mm, IPC Medium Density)
footprint M08A_L (SOIC, 8-Leads, Body 4.9x3.9mm, Pitch 1.27mm, IPC High Density)
footprint M08A_M (SOIC, 8-Leads, Body 4.9x3.9mm, Pitch 1.27mm, IPC Low Density)
pins: 1 OUT (power), 2 SNS (in), 3 SD (in), 4 GND (power), 5 ~{ERR} (oc), 6 V TAP, 7 FB (in), 8 IN (power)

## LP5900SD-1.5
designator U?
Ultra Low Noise, 150mA Linear Regulator for RF/Analog Circuits Requires No Bypass Capacitor, 6-pin LLP; PartNumber: LP5900SD-1.5; Manufacturer: National Semiconductor; PackageTopMarking: XTT*L15; PowerWise: N; CompType: LDO IC; High-Reliability: Y; DatasheetVersion: Jul-2010; PackageVersion: revA, Nov-2003; PackageReference: SDB06A; PackageDescription: LLP, Plastic, Dual, 2.2 x 2.5 x 0.8mm Body, 6 Lead, 0.65mm Pitch, No Pullback; RoHS: N; PinCount: 6; ComponentLink1Description: Manufacturer URL; ComponentLink1URL: http://www.national.com/; ComponentLink2Description: LP5900 Datasheet; ComponentLink2URL: http://www.national.com/ds/LP/LP5900.pdf; ComponentLink3Description: LP5900 Web Page; ComponentLink3URL: http://www.national.com/pf/LP/LP5900.html; ComponentLink4Description: SDB06A Package Page; ComponentLink4URL: http://www.national.com/packaging/folders/sdb06a.html
footprint SDB06A (SON, 6-Leads, Body 2.2x2.5mm, Pitch 0.65mm, NSC Recommended (SC-70 Land))
pins: 1 OUT (power), 2 NC, 3 GND (power), 4 EN (in), 5 NC, 6 IN (power), 7 DAP (power)

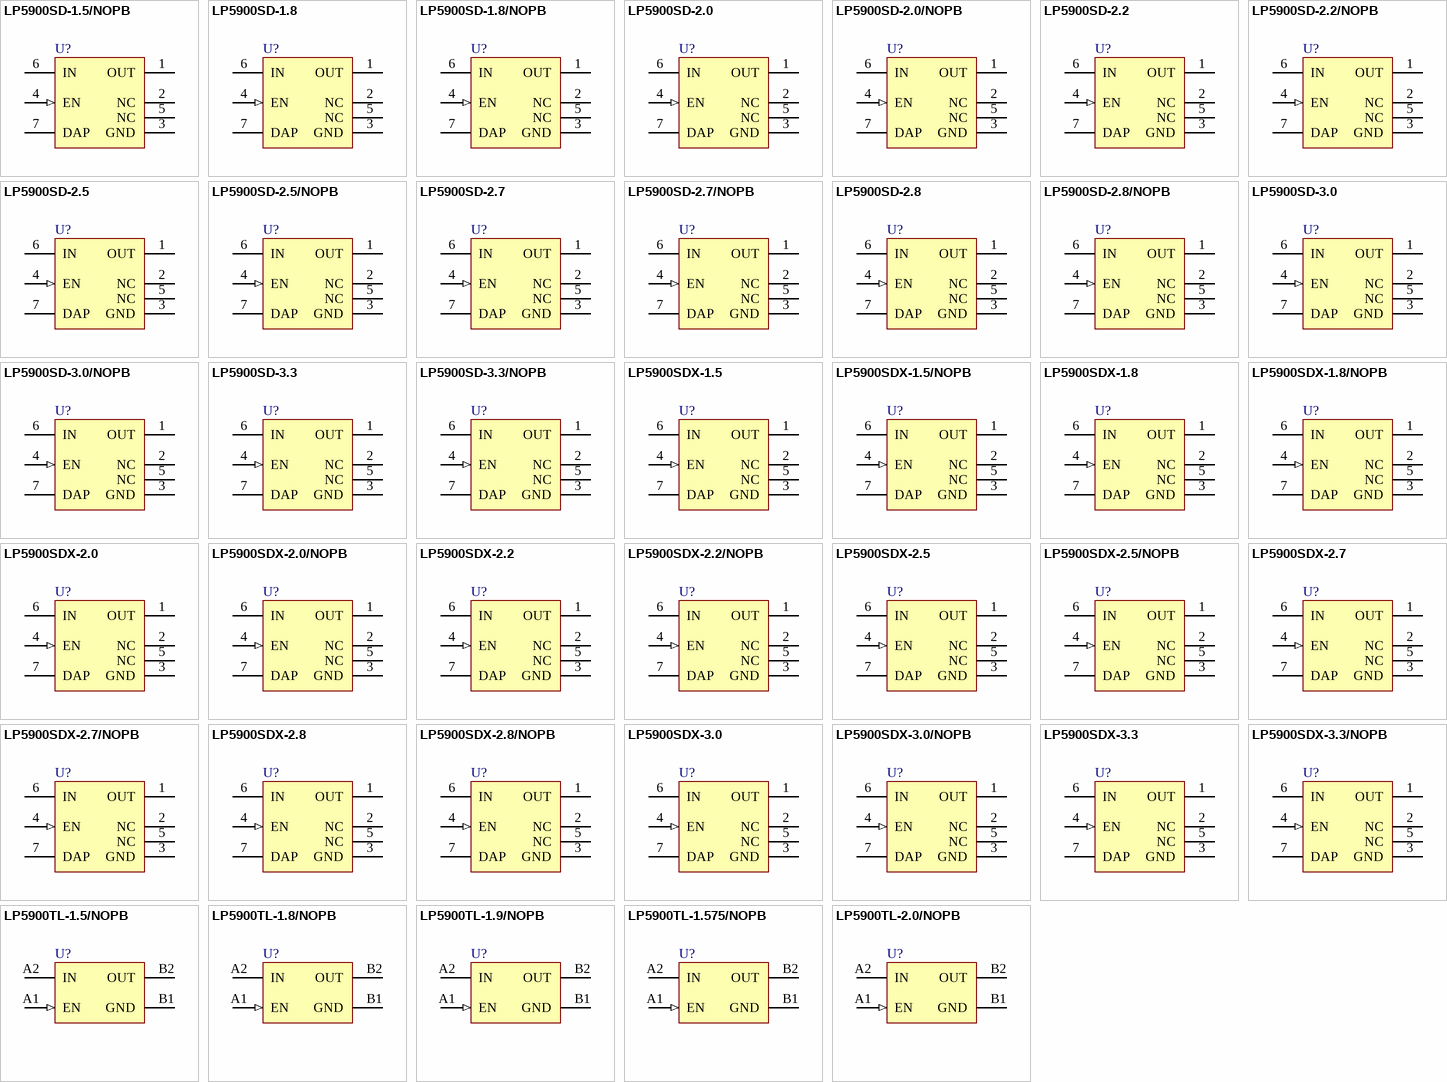
[diagram p52: symbols LP5900SD-1.5/NOPB to LP5900TL-2.0/NOPB]

## LP5900SD-1.5/NOPB
designator U?
Ultra Low Noise, 150mA Linear Regulator for RF/Analog Circuits Requires No Bypass Capacitor, 6-pin LLP, Pb-Free; PartNumber: LP5900SD-1.5/NOPB; Manufacturer: National Semiconductor; PackageTopMarking: XTT*L15; PowerWise: N; CompType: LDO IC; High-Reliability: Y; DatasheetVersion: Jul-2010; PackageVersion: revA, Nov-2003; PackageReference: SDB06A; PackageDescription: LLP, Plastic, Dual, 2.2 x 2.5 x 0.8mm Body, 6 Lead, 0.65mm Pitch, No Pullback; RoHS: Y; PinCount: 6; ComponentLink1Description: Manufacturer URL; ComponentLink1URL: http://www.national.com/; ComponentLink2Description: LP5900 Datasheet; ComponentLink2URL: http://www.national.com/ds/LP/LP5900.pdf; ComponentLink3Description: LP5900 Web Page; ComponentLink3URL: http://www.national.com/pf/LP/LP5900.html; ComponentLink4Description: SDB06A Package Page; ComponentLink4URL: http://www.national.com/packaging/folders/sdb06a.html
footprint SDB06A (SON, 6-Leads, Body 2.2x2.5mm, Pitch 0.65mm, NSC Recommended (SC-70 Land))
pins: 1 OUT (power), 2 NC, 3 GND (power), 4 EN (in), 5 NC, 6 IN (power), 7 DAP (power)

## LP5900SD-1.8
designator U?
Ultra Low Noise, 150mA Linear Regulator for RF/Analog Circuits Requires No Bypass Capacitor, 6-pin LLP; PartNumber: LP5900SD-1.8; Manufacturer: National Semiconductor; PackageTopMarking: XTT*L17; PowerWise: N; CompType: LDO IC; High-Reliability: Y; DatasheetVersion: Jul-2010; PackageVersion: revA, Nov-2003; PackageReference: SDB06A; PackageDescription: LLP, Plastic, Dual, 2.2 x 2.5 x 0.8mm Body, 6 Lead, 0.65mm Pitch, No Pullback; RoHS: N; PinCount: 6; ComponentLink1Description: Manufacturer URL; ComponentLink1URL: http://www.national.com/; ComponentLink2Description: LP5900 Datasheet; ComponentLink2URL: http://www.national.com/ds/LP/LP5900.pdf; ComponentLink3Description: LP5900 Web Page; ComponentLink3URL: http://www.national.com/pf/LP/LP5900.html; ComponentLink4Description: SDB06A Package Page; ComponentLink4URL: http://www.national.com/packaging/folders/sdb06a.html
footprint SDB06A (SON, 6-Leads, Body 2.2x2.5mm, Pitch 0.65mm, NSC Recommended (SC-70 Land))
pins: 1 OUT (power), 2 NC, 3 GND (power), 4 EN (in), 5 NC, 6 IN (power), 7 DAP (power)

## LP5900SD-1.8/NOPB
designator U?
Ultra Low Noise, 150mA Linear Regulator for RF/Analog Circuits Requires No Bypass Capacitor, 6-pin LLP, Pb-Free; PartNumber: LP5900SD-1.8/NOPB; Manufacturer: National Semiconductor; PackageTopMarking: XTT*L17; PowerWise: N; CompType: LDO IC; High-Reliability: Y; DatasheetVersion: Jul-2010; PackageVersion: revA, Nov-2003; PackageReference: SDB06A; PackageDescription: LLP, Plastic, Dual, 2.2 x 2.5 x 0.8mm Body, 6 Lead, 0.65mm Pitch, No Pullback; RoHS: Y; PinCount: 6; ComponentLink1Description: Manufacturer URL; ComponentLink1URL: http://www.national.com/; ComponentLink2Description: LP5900 Datasheet; ComponentLink2URL: http://www.national.com/ds/LP/LP5900.pdf; ComponentLink3Description: LP5900 Web Page; ComponentLink3URL: http://www.national.com/pf/LP/LP5900.html; ComponentLink4Description: SDB06A Package Page; ComponentLink4URL: http://www.national.com/packaging/folders/sdb06a.html
footprint SDB06A (SON, 6-Leads, Body 2.2x2.5mm, Pitch 0.65mm, NSC Recommended (SC-70 Land))
pins: 1 OUT (power), 2 NC, 3 GND (power), 4 EN (in), 5 NC, 6 IN (power), 7 DAP (power)

## LP5900SD-2.0
designator U?
Ultra Low Noise, 150mA Linear Regulator for RF/Analog Circuits Requires No Bypass Capacitor, 6-pin LLP; PartNumber: LP5900SD-2.0; Manufacturer: National Semiconductor; PackageTopMarking: XTT*L18; PowerWise: N; CompType: LDO IC; High-Reliability: Y; DatasheetVersion: Jul-2010; PackageVersion: revA, Nov-2003; PackageReference: SDB06A; PackageDescription: LLP, Plastic, Dual, 2.2 x 2.5 x 0.8mm Body, 6 Lead, 0.65mm Pitch, No Pullback; RoHS: N; PinCount: 6; ComponentLink1Description: Manufacturer URL; ComponentLink1URL: http://www.national.com/; ComponentLink2Description: LP5900 Datasheet; ComponentLink2URL: http://www.national.com/ds/LP/LP5900.pdf; ComponentLink3Description: LP5900 Web Page; ComponentLink3URL: http://www.national.com/pf/LP/LP5900.html; ComponentLink4Description: SDB06A Package Page; ComponentLink4URL: http://www.national.com/packaging/folders/sdb06a.html
footprint SDB06A (SON, 6-Leads, Body 2.2x2.5mm, Pitch 0.65mm, NSC Recommended (SC-70 Land))
pins: 1 OUT (power), 2 NC, 3 GND (power), 4 EN (in), 5 NC, 6 IN (power), 7 DAP (power)

## LP5900SD-2.0/NOPB
designator U?
Ultra Low Noise, 150mA Linear Regulator for RF/Analog Circuits Requires No Bypass Capacitor, 6-pin LLP, Pb-Free; PartNumber: LP5900SD-2.0/NOPB; Manufacturer: National Semiconductor; PackageTopMarking: XTT*L18; PowerWise: N; CompType: LDO IC; High-Reliability: Y; DatasheetVersion: Jul-2010; PackageVersion: revA, Nov-2003; PackageReference: SDB06A; PackageDescription: LLP, Plastic, Dual, 2.2 x 2.5 x 0.8mm Body, 6 Lead, 0.65mm Pitch, No Pullback; RoHS: Y; PinCount: 6; ComponentLink1Description: Manufacturer URL; ComponentLink1URL: http://www.national.com/; ComponentLink2Description: LP5900 Datasheet; ComponentLink2URL: http://www.national.com/ds/LP/LP5900.pdf; ComponentLink3Description: LP5900 Web Page; ComponentLink3URL: http://www.national.com/pf/LP/LP5900.html; ComponentLink4Description: SDB06A Package Page; ComponentLink4URL: http://www.national.com/packaging/folders/sdb06a.html
footprint SDB06A (SON, 6-Leads, Body 2.2x2.5mm, Pitch 0.65mm, NSC Recommended (SC-70 Land))
pins: 1 OUT (power), 2 NC, 3 GND (power), 4 EN (in), 5 NC, 6 IN (power), 7 DAP (power)

## LP5900SD-2.2
designator U?
Ultra Low Noise, 150mA Linear Regulator for RF/Analog Circuits Requires No Bypass Capacitor, 6-pin LLP; PartNumber: LP5900SD-2.2; Manufacturer: National Semiconductor; PackageTopMarking: XTT*L19; PowerWise: N; CompType: LDO IC; High-Reliability: Y; DatasheetVersion: Jul-2010; PackageVersion: revA, Nov-2003; PackageReference: SDB06A; PackageDescription: LLP, Plastic, Dual, 2.2 x 2.5 x 0.8mm Body, 6 Lead, 0.65mm Pitch, No Pullback; RoHS: N; PinCount: 6; ComponentLink1Description: Manufacturer URL; ComponentLink1URL: http://www.national.com/; ComponentLink2Description: LP5900 Datasheet; ComponentLink2URL: http://www.national.com/ds/LP/LP5900.pdf; ComponentLink3Description: LP5900 Web Page; ComponentLink3URL: http://www.national.com/pf/LP/LP5900.html; ComponentLink4Description: SDB06A Package Page; ComponentLink4URL: http://www.national.com/packaging/folders/sdb06a.html
footprint SDB06A (SON, 6-Leads, Body 2.2x2.5mm, Pitch 0.65mm, NSC Recommended (SC-70 Land))
pins: 1 OUT (power), 2 NC, 3 GND (power), 4 EN (in), 5 NC, 6 IN (power), 7 DAP (power)

## LP5900SD-2.2/NOPB
designator U?
Ultra Low Noise, 150mA Linear Regulator for RF/Analog Circuits Requires No Bypass Capacitor, 6-pin LLP, Pb-Free; PartNumber: LP5900SD-2.2/NOPB; Manufacturer: National Semiconductor; PackageTopMarking: XTT*L19; PowerWise: N; CompType: LDO IC; High-Reliability: Y; DatasheetVersion: Jul-2010; PackageVersion: revA, Nov-2003; PackageReference: SDB06A; PackageDescription: LLP, Plastic, Dual, 2.2 x 2.5 x 0.8mm Body, 6 Lead, 0.65mm Pitch, No Pullback; RoHS: Y; PinCount: 6; ComponentLink1Description: Manufacturer URL; ComponentLink1URL: http://www.national.com/; ComponentLink2Description: LP5900 Datasheet; ComponentLink2URL: http://www.national.com/ds/LP/LP5900.pdf; ComponentLink3Description: LP5900 Web Page; ComponentLink3URL: http://www.national.com/pf/LP/LP5900.html; ComponentLink4Description: SDB06A Package Page; ComponentLink4URL: http://www.national.com/packaging/folders/sdb06a.html
footprint SDB06A (SON, 6-Leads, Body 2.2x2.5mm, Pitch 0.65mm, NSC Recommended (SC-70 Land))
pins: 1 OUT (power), 2 NC, 3 GND (power), 4 EN (in), 5 NC, 6 IN (power), 7 DAP (power)

## LP5900SD-2.5
designator U?
Ultra Low Noise, 150mA Linear Regulator for RF/Analog Circuits Requires No Bypass Capacitor, 6-pin LLP; PartNumber: LP5900SD-2.5; Manufacturer: National Semiconductor; PackageTopMarking: XTT*L13; PowerWise: N; CompType: LDO IC; High-Reliability: Y; DatasheetVersion: Jul-2010; PackageVersion: revA, Nov-2003; PackageReference: SDB06A; PackageDescription: LLP, Plastic, Dual, 2.2 x 2.5 x 0.8mm Body, 6 Lead, 0.65mm Pitch, No Pullback; RoHS: N; PinCount: 6; ComponentLink1Description: Manufacturer URL; ComponentLink1URL: http://www.national.com/; ComponentLink2Description: LP5900 Datasheet; ComponentLink2URL: http://www.national.com/ds/LP/LP5900.pdf; ComponentLink3Description: LP5900 Web Page; ComponentLink3URL: http://www.national.com/pf/LP/LP5900.html; ComponentLink4Description: SDB06A Package Page; ComponentLink4URL: http://www.national.com/packaging/folders/sdb06a.html
footprint SDB06A (SON, 6-Leads, Body 2.2x2.5mm, Pitch 0.65mm, NSC Recommended (SC-70 Land))
pins: 1 OUT (power), 2 NC, 3 GND (power), 4 EN (in), 5 NC, 6 IN (power), 7 DAP (power)

## LP5900SD-2.5/NOPB
designator U?
Ultra Low Noise, 150mA Linear Regulator for RF/Analog Circuits Requires No Bypass Capacitor, 6-pin LLP, Pb-Free; PartNumber: LP5900SD-2.5/NOPB; Manufacturer: National Semiconductor; PackageTopMarking: XTT*L13; PowerWise: N; CompType: LDO IC; High-Reliability: Y; DatasheetVersion: Jul-2010; PackageVersion: revA, Nov-2003; PackageReference: SDB06A; PackageDescription: LLP, Plastic, Dual, 2.2 x 2.5 x 0.8mm Body, 6 Lead, 0.65mm Pitch, No Pullback; RoHS: Y; PinCount: 6; ComponentLink1Description: Manufacturer URL; ComponentLink1URL: http://www.national.com/; ComponentLink2Description: LP5900 Datasheet; ComponentLink2URL: http://www.national.com/ds/LP/LP5900.pdf; ComponentLink3Description: LP5900 Web Page; ComponentLink3URL: http://www.national.com/pf/LP/LP5900.html; ComponentLink4Description: SDB06A Package Page; ComponentLink4URL: http://www.national.com/packaging/folders/sdb06a.html
footprint SDB06A (SON, 6-Leads, Body 2.2x2.5mm, Pitch 0.65mm, NSC Recommended (SC-70 Land))
pins: 1 OUT (power), 2 NC, 3 GND (power), 4 EN (in), 5 NC, 6 IN (power), 7 DAP (power)

## LP5900SD-2.7
designator U?
Ultra Low Noise, 150mA Linear Regulator for RF/Analog Circuits Requires No Bypass Capacitor, 6-pin LLP; PartNumber: LP5900SD-2.7; Manufacturer: National Semiconductor; PackageTopMarking: XTT*L14; PowerWise: N; CompType: LDO IC; High-Reliability: Y; DatasheetVersion: Jul-2010; PackageVersion: revA, Nov-2003; PackageReference: SDB06A; PackageDescription: LLP, Plastic, Dual, 2.2 x 2.5 x 0.8mm Body, 6 Lead, 0.65mm Pitch, No Pullback; RoHS: N; PinCount: 6; ComponentLink1Description: Manufacturer URL; ComponentLink1URL: http://www.national.com/; ComponentLink2Description: LP5900 Datasheet; ComponentLink2URL: http://www.national.com/ds/LP/LP5900.pdf; ComponentLink3Description: LP5900 Web Page; ComponentLink3URL: http://www.national.com/pf/LP/LP5900.html; ComponentLink4Description: SDB06A Package Page; ComponentLink4URL: http://www.national.com/packaging/folders/sdb06a.html
footprint SDB06A (SON, 6-Leads, Body 2.2x2.5mm, Pitch 0.65mm, NSC Recommended (SC-70 Land))
pins: 1 OUT (power), 2 NC, 3 GND (power), 4 EN (in), 5 NC, 6 IN (power), 7 DAP (power)